# EAGLE library part PWR_REG_TPS61023DRLR (library !GPLIB_ACTIVE)
Boost Switching Regulator IC Positive Adjustable 2.2V 1 Output 3A SOT-563, SOT-666 Check availability <https://pricing.snapeda.com/parts/TPS61023DRLR/Texas%20Instruments/view-part?ref=eda>
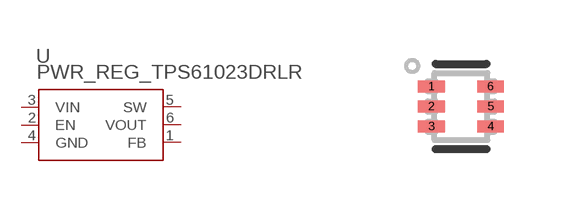
[diagram p46: symbol with the pads of DRL0006A; footprint DRL0006A]

Designator prefix U

## PWR_REG_TPS61023DRLR  [DRL0006A]
1  FB  in
2  EN  in
3  VIN  pwr
4  GND  pwr
5  SW  pwr
6  VOUT  pwr

## Footprint DRL0006A (pad centres in mm)
smd 0.67 x 0.3: 1 -0.74,0.5; 2 -0.74,0; 3 -0.74,-0.5; 4 0.74,-0.5; 5 0.74,0; 6 0.74,0.5